# EAGLE library part BH2226F (library OpenMotics)
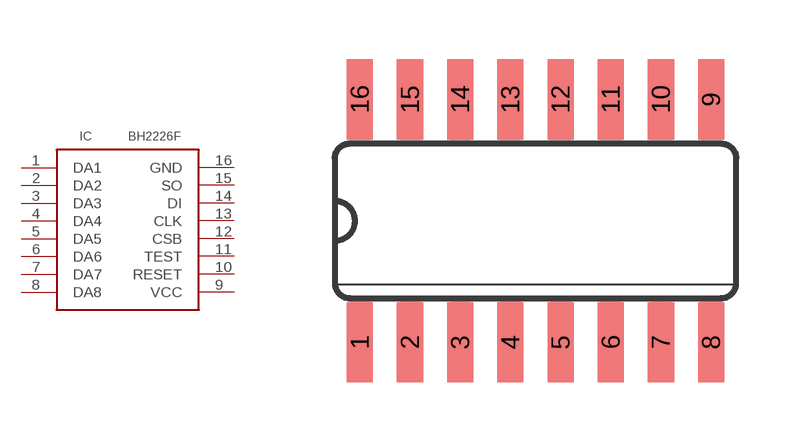
[diagram p7: symbol with the pads of SOP16; footprint SOP16]

Designator prefix IC

## BH2226F  [SOP16]
1  DA1
2  DA2
3  DA3
4  DA4
5  DA5
6  DA6
7  DA7
8  DA8
9  VCC
10  RESET
11  TEST
12  CSB
13  CLK
14  DI
15  SO
16  GND

## Footprint SOP16 (pad centres in mm)
smd 0.66 x 2.032: 1 0.635,0.102; 2 1.905,0.102; 3 3.175,0.102; 4 4.445,0.102; 5 5.715,0.102; 6 6.985,0.102; 7 8.255,0.102; 8 9.525,0.102; 9 9.525,6.248; 10 8.255,6.248; 11 6.985,6.248; 12 5.715,6.248; 13 4.445,6.248; 14 3.175,6.248; 15 1.905,6.248; 16 0.635,6.248